# EAGLE library part ZTURN (library pbxl)
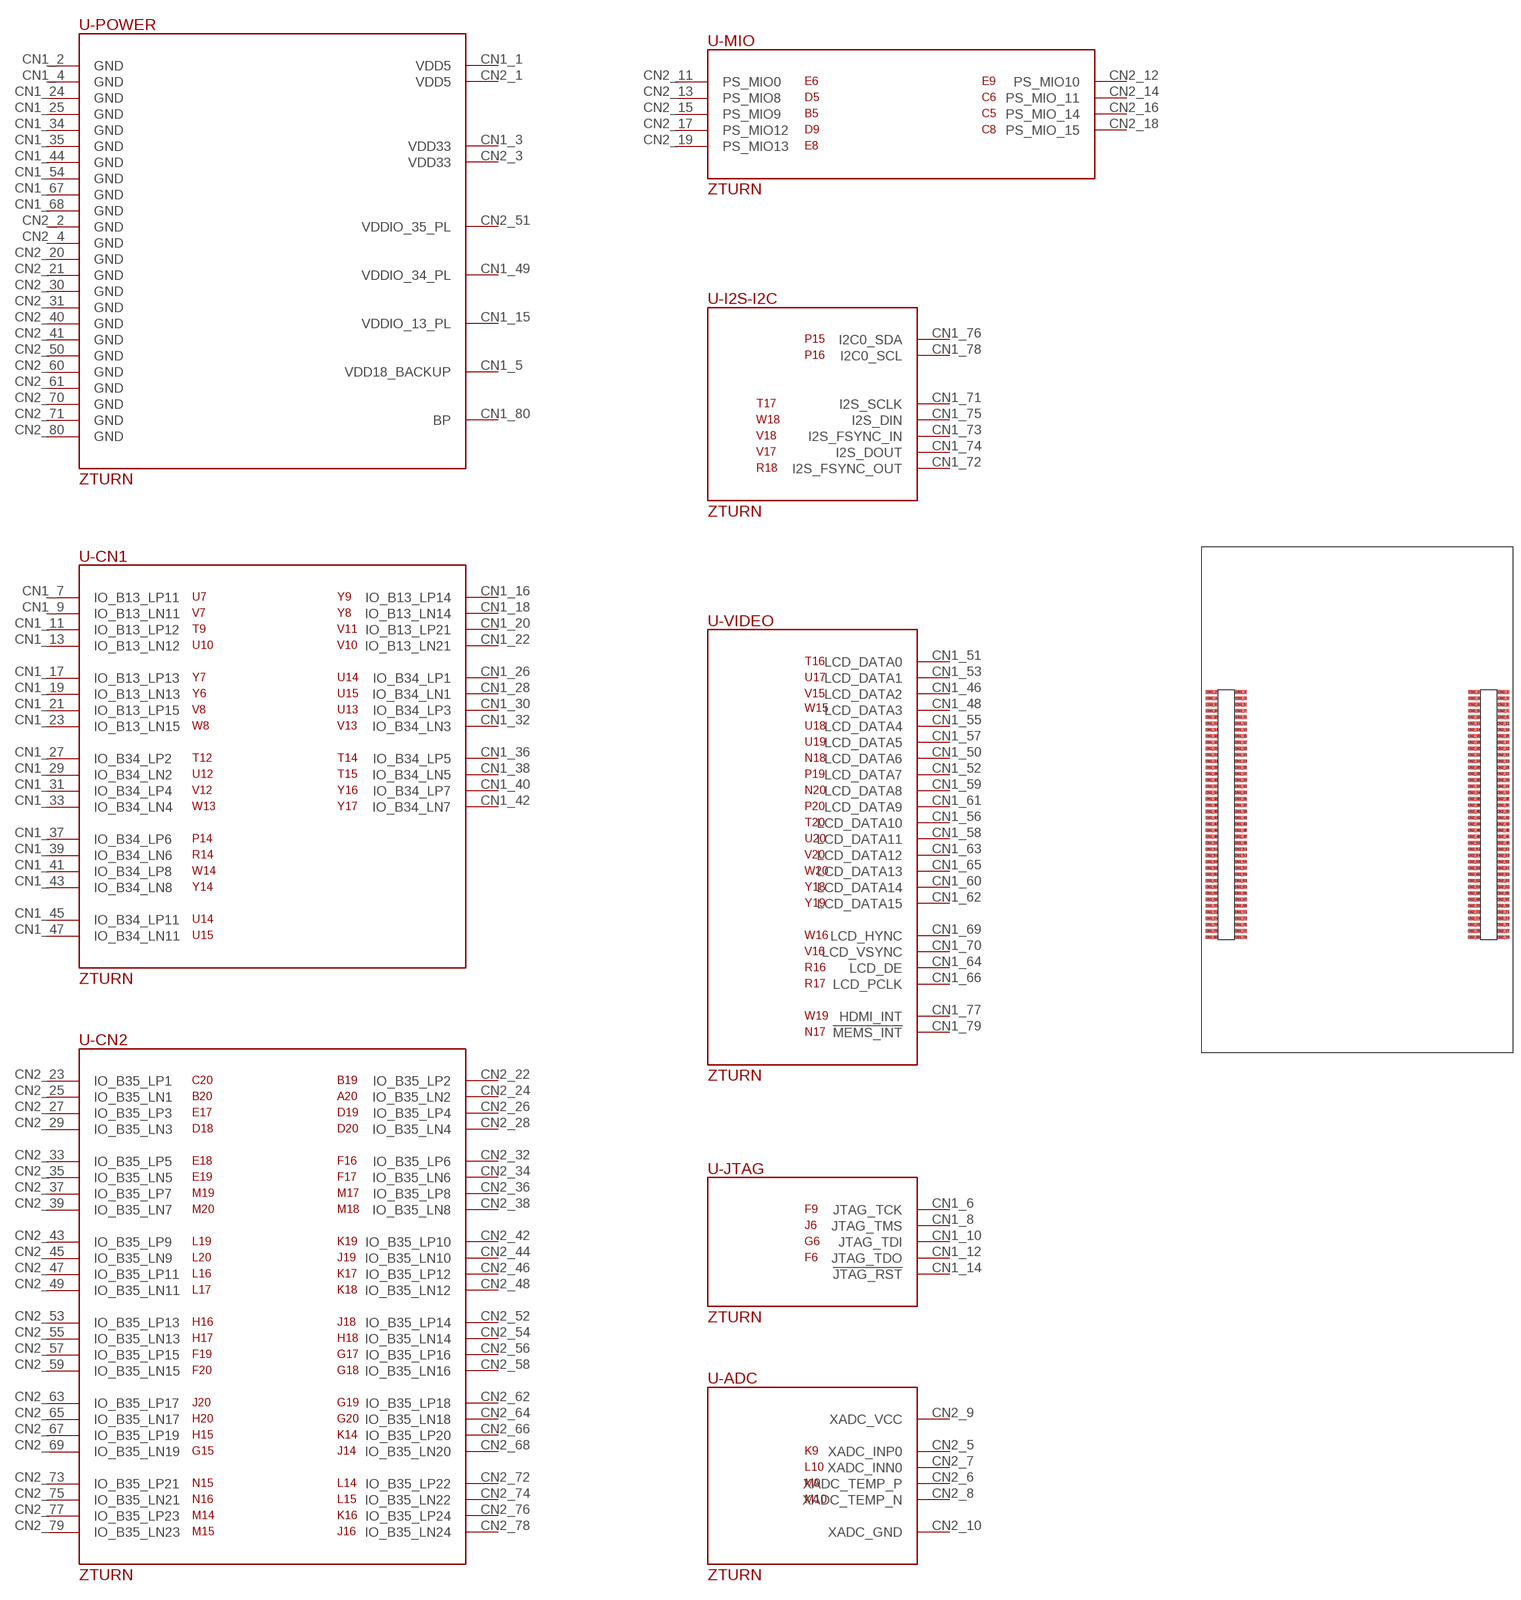
[diagram p5: symbol with the pads of ZTURN; footprint ZTURN]

Designator prefix -; gates -MIO=ZTURN_MIO -VIDEO=ZTURN_VIDEO -JTAG=ZTURN_JTAG -ADC=ZTURN_ADC -CN1=ZTURN_CN1 -CN2=ZTURN_CN2 -I2S-I2C=ZTURN_I2S_I2C -POWER=ZTURN_POWER

## ZTURN  [ZTURN]
CN1_1  -POWER:VDD5
CN1_2  -POWER:GND
CN1_3  -POWER:VDD33
CN1_4  -POWER:GND
CN1_5  -POWER:VDD18_BACKUP
CN1_6  -JTAG:JTAG_TCK
CN1_7  -CN1:IO_B13_LP11
CN1_8  -JTAG:JTAG_TMS
CN1_9  -CN1:IO_B13_LN11
CN1_10  -JTAG:JTAG_TDI
CN1_11  -CN1:IO_B13_LP12
CN1_12  -JTAG:JTAG_TDO
CN1_13  -CN1:IO_B13_LN12
CN1_14  -JTAG:!JTAG_RST!
CN1_15  -POWER:VDDIO_13_PL
CN1_16  -CN1:IO_B13_LP14
CN1_17  -CN1:IO_B13_LP13
CN1_18  -CN1:IO_B13_LN14
CN1_19  -CN1:IO_B13_LN13
CN1_20  -CN1:IO_B13_LP21
CN1_21  -CN1:IO_B13_LP15
CN1_22  -CN1:IO_B13_LN21
CN1_23  -CN1:IO_B13_LN15
CN1_24  -POWER:GND
CN1_25  -POWER:GND
CN1_26  -CN1:IO_B34_LP1
CN1_27  -CN1:IO_B34_LP2
CN1_28  -CN1:IO_B34_LN1
CN1_29  -CN1:IO_B34_LN2
CN1_30  -CN1:IO_B34_LP3
CN1_31  -CN1:IO_B34_LP4
CN1_32  -CN1:IO_B34_LN3
CN1_33  -CN1:IO_B34_LN4
CN1_34  -POWER:GND
CN1_35  -POWER:GND
CN1_36  -CN1:IO_B34_LP5
CN1_37  -CN1:IO_B34_LP6
CN1_38  -CN1:IO_B34_LN5
CN1_39  -CN1:IO_B34_LN6
CN1_40  -CN1:IO_B34_LP7
CN1_41  -CN1:IO_B34_LP8
CN1_42  -CN1:IO_B34_LN7
CN1_43  -CN1:IO_B34_LN8
CN1_44  -POWER:GND
CN1_45  -CN1:IO_B34_LP11
CN1_46  -VIDEO:LCD_DATA2
CN1_47  -CN1:IO_B34_LN11
CN1_48  -VIDEO:LCD_DATA3
CN1_49  -POWER:VDDIO_34_PL
CN1_50  -VIDEO:LCD_DATA6
CN1_51  -VIDEO:LCD_DATA0
CN1_52  -VIDEO:LCD_DATA7
CN1_53  -VIDEO:LCD_DATA1
CN1_54  -POWER:GND
CN1_55  -VIDEO:LCD_DATA4
CN1_56  -VIDEO:LCD_DATA10
CN1_57  -VIDEO:LCD_DATA5
CN1_58  -VIDEO:LCD_DATA11
CN1_59  -VIDEO:LCD_DATA8
CN1_60  -VIDEO:LCD_DATA14
CN1_61  -VIDEO:LCD_DATA9
CN1_62  -VIDEO:LCD_DATA15
CN1_63  -VIDEO:LCD_DATA12
CN1_64  -VIDEO:LCD_DE
CN1_65  -VIDEO:LCD_DATA13
CN1_66  -VIDEO:LCD_PCLK
CN1_67  -POWER:GND
CN1_68  -POWER:GND
CN1_69  -VIDEO:LCD_HYNC
CN1_70  -VIDEO:LCD_VSYNC
CN1_71  -I2S-I2C:I2S_SCLK
CN1_72  -I2S-I2C:I2S_FSYNC_OUT
CN1_73  -I2S-I2C:I2S_FSYNC_IN
CN1_74  -I2S-I2C:I2S_DOUT
CN1_75  -I2S-I2C:I2S_DIN
CN1_76  -I2S-I2C:I2C0_SDA
CN1_77  -VIDEO:HDMI_INT
CN1_78  -I2S-I2C:I2C0_SCL
CN1_79  -VIDEO:!MEMS_INT!
CN1_80  -POWER:BP
CN2_1  -POWER:VDD5
CN2_2  -POWER:GND
CN2_3  -POWER:VDD33
CN2_4  -POWER:GND
CN2_5  -ADC:XADC_INP0
CN2_6  -ADC:XADC_TEMP_P
CN2_7  -ADC:XADC_INN0
CN2_8  -ADC:XADC_TEMP_N
CN2_9  -ADC:XADC_VCC
CN2_10  -ADC:XADC_GND
CN2_11  -MIO:PS_MIO0
CN2_12  -MIO:PS_MIO10
CN2_13  -MIO:PS_MIO8
CN2_14  -MIO:PS_MIO_11
CN2_15  -MIO:PS_MIO9
CN2_16  -MIO:PS_MIO_14
CN2_17  -MIO:PS_MIO12
CN2_18  -MIO:PS_MIO_15
CN2_19  -MIO:PS_MIO13
CN2_20  -POWER:GND
CN2_21  -POWER:GND
CN2_22  -CN2:IO_B35_LP2
CN2_23  -CN2:IO_B35_LP1
CN2_24  -CN2:IO_B35_LN2
CN2_25  -CN2:IO_B35_LN1
CN2_26  -CN2:IO_B35_LP4
CN2_27  -CN2:IO_B35_LP3
CN2_28  -CN2:IO_B35_LN4
CN2_29  -CN2:IO_B35_LN3
CN2_30  -POWER:GND
CN2_31  -POWER:GND
CN2_32  -CN2:IO_B35_LP6
CN2_33  -CN2:IO_B35_LP5
CN2_34  -CN2:IO_B35_LN6
CN2_35  -CN2:IO_B35_LN5
CN2_36  -CN2:IO_B35_LP8
CN2_37  -CN2:IO_B35_LP7
CN2_38  -CN2:IO_B35_LN8
CN2_39  -CN2:IO_B35_LN7
CN2_40  -POWER:GND
CN2_41  -POWER:GND
CN2_42  -CN2:IO_B35_LP10
CN2_43  -CN2:IO_B35_LP9
CN2_44  -CN2:IO_B35_LN10
CN2_45  -CN2:IO_B35_LN9
CN2_46  -CN2:IO_B35_LP12
CN2_47  -CN2:IO_B35_LP11
CN2_48  -CN2:IO_B35_LN12
CN2_49  -CN2:IO_B35_LN11
CN2_50  -POWER:GND
CN2_51  -POWER:VDDIO_35_PL
CN2_52  -CN2:IO_B35_LP14
CN2_53  -CN2:IO_B35_LP13
CN2_54  -CN2:IO_B35_LN14
CN2_55  -CN2:IO_B35_LN13
CN2_56  -CN2:IO_B35_LP16
CN2_57  -CN2:IO_B35_LP15
CN2_58  -CN2:IO_B35_LN16
CN2_59  -CN2:IO_B35_LN15
CN2_60  -POWER:GND
CN2_61  -POWER:GND
CN2_62  -CN2:IO_B35_LP18
CN2_63  -CN2:IO_B35_LP17
CN2_64  -CN2:IO_B35_LN18
CN2_65  -CN2:IO_B35_LN17
CN2_66  -CN2:IO_B35_LP20
CN2_67  -CN2:IO_B35_LP19
CN2_68  -CN2:IO_B35_LN20
CN2_69  -CN2:IO_B35_LN19
CN2_70  -POWER:GND
CN2_71  -POWER:GND
CN2_72  -CN2:IO_B35_LP22
CN2_73  -CN2:IO_B35_LP21
CN2_74  -CN2:IO_B35_LN22
CN2_75  -CN2:IO_B35_LN21
CN2_76  -CN2:IO_B35_LP24
CN2_77  -CN2:IO_B35_LP23
CN2_78  -CN2:IO_B35_LN24
CN2_79  -CN2:IO_B35_LN23
CN2_80  -POWER:GND

## Footprint ZTURN (pad centres in mm)
DUAL ROW STRAIGHT HEADER 1364 SERIES. 1.27mm x 1.27mm. Without Fixing Post. SMT Source: http://www.leotronics.co.uk/Conexcon/Data%20Sheets/sec.%20A/1364ing.pdf
smd 2.4 x 0.76: CN1_1 -24.05,24.765; CN1_2 -29.95,24.765; CN1_3 -24.05,23.495; CN1_4 -29.95,23.495; CN1_5 -24.05,22.225; CN1_6 -29.95,22.225; CN1_7 -24.05,20.955; CN1_8 -29.95,20.955; CN1_9 -24.05,19.685; CN1_10 -29.95,19.685; CN1_11 -24.05,18.415; CN1_12 -29.95,18.415; CN1_13 -24.05,17.145; CN1_14 -29.95,17.145; CN1_15 -24.05,15.875; CN1_16 -29.95,15.875; CN1_17 -24.05,14.605; CN1_18 -29.95,14.605; CN1_19 -24.05,13.335; CN1_20 -29.95,13.335; CN1_21 -24.05,12.065; CN1_22 -29.95,12.065; CN1_23 -24.05,10.795; CN1_24 -29.95,10.795; CN1_25 -24.05,9.525; CN1_26 -29.95,9.525; CN1_27 -24.05,8.255; CN1_28 -29.95,8.255; CN1_29 -24.05,6.985; CN1_30 -29.95,6.985; CN1_31 -24.05,5.715; CN1_32 -29.95,5.715; CN1_33 -24.05,4.445; CN1_34 -29.95,4.445; CN1_35 -24.05,3.175; CN1_36 -29.95,3.175; CN1_37 -24.05,1.905; CN1_38 -29.95,1.905; CN1_39 -24.05,0.635; CN1_40 -29.95,0.635; CN1_41 -24.05,-0.635; CN1_42 -29.95,-0.635; CN1_43 -24.05,-1.905; CN1_44 -29.95,-1.905; CN1_45 -24.05,-3.175; CN1_46 -29.95,-3.175; CN1_47 -24.05,-4.445; CN1_48 -29.95,-4.445; CN1_49 -24.05,-5.715; CN1_50 -29.95,-5.715; CN1_51 -24.05,-6.985; CN1_52 -29.95,-6.985; CN1_53 -24.05,-8.255; CN1_54 -29.95,-8.255; CN1_55 -24.05,-9.525; CN1_56 -29.95,-9.525; CN1_57 -24.05,-10.795; CN1_58 -29.95,-10.795; CN1_59 -24.05,-12.065; CN1_60 -29.95,-12.065; CN1_61 -24.05,-13.335; CN1_62 -29.95,-13.335; CN1_63 -24.05,-14.605; CN1_64 -29.95,-14.605; CN1_65 -24.05,-15.875; CN1_66 -29.95,-15.875; CN1_67 -24.05,-17.145; CN1_68 -29.95,-17.145; CN1_69 -24.05,-18.415; CN1_70 -29.95,-18.415; CN1_71 -24.05,-19.685; CN1_72 -29.95,-19.685; CN1_73 -24.05,-20.955; CN1_74 -29.95,-20.955; CN1_75 -24.05,-22.225; CN1_76 -29.95,-22.225; CN1_77 -24.05,-23.495; CN1_78 -29.95,-23.495; CN1_79 -24.05,-24.765; CN1_80 -29.95,-24.765; CN2_1 28.95,24.765; CN2_2 23.05,24.765; CN2_3 28.95,23.495; CN2_4 23.05,23.495; CN2_5 28.95,22.225; CN2_6 23.05,22.225; CN2_7 28.95,20.955; CN2_8 23.05,20.955; CN2_9 28.95,19.685; CN2_10 23.05,19.685; CN2_11 28.95,18.415; CN2_12 23.05,18.415; CN2_13 28.95,17.145; CN2_14 23.05,17.145; CN2_15 28.95,15.875; CN2_16 23.05,15.875; CN2_17 28.95,14.605; CN2_18 23.05,14.605; CN2_19 28.95,13.335; CN2_20 23.05,13.335; CN2_21 28.95,12.065; CN2_22 23.05,12.065; CN2_23 28.95,10.795; CN2_24 23.05,10.795; CN2_25 28.95,9.525; CN2_26 23.05,9.525; CN2_27 28.95,8.255; CN2_28 23.05,8.255; CN2_29 28.95,6.985; CN2_30 23.05,6.985; CN2_31 28.95,5.715; CN2_32 23.05,5.715; CN2_33 28.95,4.445; CN2_34 23.05,4.445; CN2_35 28.95,3.175; CN2_36 23.05,3.175; CN2_37 28.95,1.905; CN2_38 23.05,1.905; CN2_39 28.95,0.635; CN2_40 23.05,0.635; CN2_41 28.95,-0.635; CN2_42 23.05,-0.635; CN2_43 28.95,-1.905; CN2_44 23.05,-1.905; CN2_45 28.95,-3.175; CN2_46 23.05,-3.175; CN2_47 28.95,-4.445; CN2_48 23.05,-4.445; CN2_49 28.95,-5.715; CN2_50 23.05,-5.715; CN2_51 28.95,-6.985; CN2_52 23.05,-6.985; CN2_53 28.95,-8.255; CN2_54 23.05,-8.255; CN2_55 28.95,-9.525; CN2_56 23.05,-9.525; CN2_57 28.95,-10.795; CN2_58 23.05,-10.795; CN2_59 28.95,-12.065; CN2_60 23.05,-12.065; CN2_61 28.95,-13.335; CN2_62 23.05,-13.335; CN2_63 28.95,-14.605; CN2_64 23.05,-14.605; CN2_65 28.95,-15.875; CN2_66 23.05,-15.875; CN2_67 28.95,-17.145; CN2_68 23.05,-17.145; CN2_69 28.95,-18.415; CN2_70 23.05,-18.415; CN2_71 28.95,-19.685; CN2_72 23.05,-19.685; CN2_73 28.95,-20.955; CN2_74 23.05,-20.955; CN2_75 28.95,-22.225; CN2_76 23.05,-22.225; CN2_77 28.95,-23.495; CN2_78 23.05,-23.495; CN2_79 28.95,-24.765; CN2_80 23.05,-24.765